# Altium footprint library SMB.PcbLib: 1 footprints
Each footprint in its own frame and in the unit in brackets; x right, y up, seen from the top. Pads: shape width x height; smd on the part's side, far side on the other; paste and mask are expansions set on the pad; w line width, h text height; cw(c..) or ccw(c..) is an arc to the next point about the centre after c.
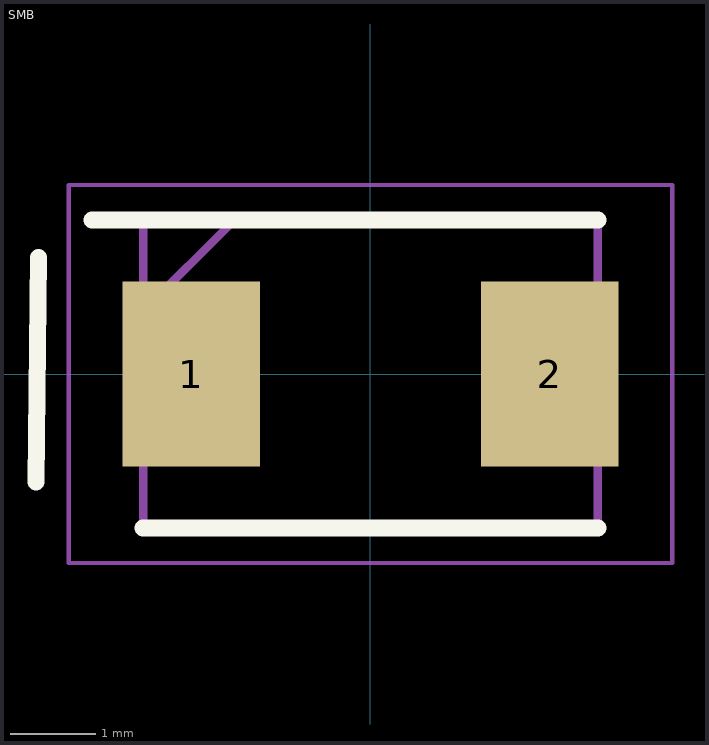
[diagram p0: the footprint, top view; thin cyan lines are the x and y axes]

## SMB [mm]
pads (2):
  rect 1.62x2.18 smd: 1(-2.11,0) 2(2.11,0)
Top Overlay:
  lines w0.2: -3.937,-1.27 -3.903,1.37 ; -3.275,1.812 2.675,1.812 ; -2.675,-1.812 2.675,-1.812
Top 3D Body:
  lines w0.1: -2.675,0.738 -1.6,1.812 ; -2.675,-1.812 -2.675,1.812 2.675,1.812 2.675,-1.812 -2.675,-1.812
Top Courtyard:
  lines w0.05: -3.55,-2.225 -3.55,2.225 3.55,2.225 3.55,-2.225 -3.55,-2.225
3D body "SM6T18A.stp": height 2.33, standoff 0.01, extent -2.675,-1.86 2.675,1.86